# EAGLE library part 691701550008B (library Wurth_Elektronik_Electromechanic_Terminal_Blocks_Connectors_rev15c)
WR-TBL Serie 7015 – 5.08mm Close Horizontal PCB Header With Flanges, 8 Pins=>Code : Con_TBL_Pluggable_5.08_PCB_THR_691701550008B <http://katalog.we-online.de/media/images/eican/Con_TBL_Pluggable_5.08_PCB_THR_6917015500xx_pf2.jpg> Details see: http://katalog.we-online.de/en/em/691_701_550_0xxB Created 2014-06-25, Karrer Zheng 2014 (C) Würth Elektronik
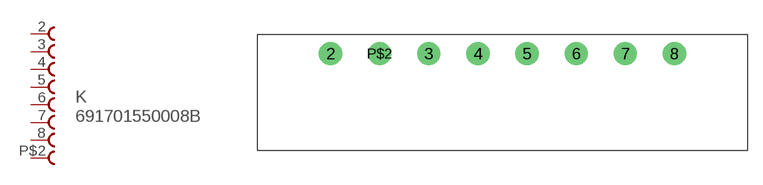
[diagram p390: symbol with the pads of 691701550008B; footprint 691701550008B]

Designator prefix K

## 691701550008B  [691701550008B]
2  1  pas
3  2  pas
4  3  pas
5  4  pas
6  5  pas
7  6  pas
8  7  pas
P$2  8  pas

## Footprint 691701550008B (pad centres in mm)
WR-TBL Serie 7015 – 5.08mm Close Horizontal PCB Header With Flanges, 8 Pins
drill 1.6: 2 0,0; 3 10.16,0; 4 15.24,0; 5 20.32,0; 6 25.4,0; 7 30.48,0; 8 35.56,0; P$2 5.08,0